# EAGLE library part TL2575HV-33QKTTRQ1 (library v-reg-custom)
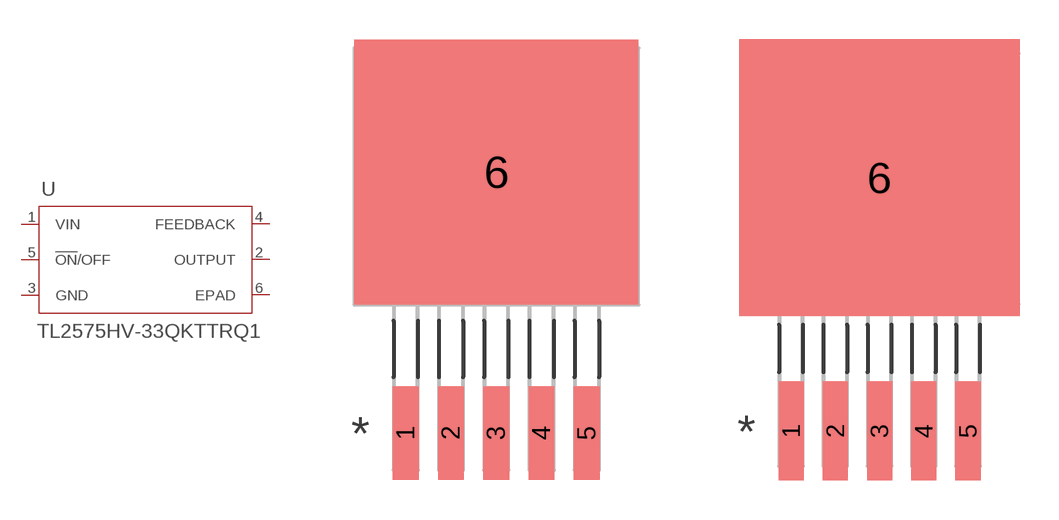
[diagram p0: symbol with the pads of KTT5; footprints KTT5, KTT5-M]

Designator prefix U

## TL2575HV-33QKTTRQ1 (MFG: Texas Instruments; MPN: TL2575HV-33QKTTRQ1; VALUE: TL2575HV-33QKTTRQ1)  [KTT5]
1  VIN  in
2  OUTPUT  out
3  GND  pwr
4  FEEDBACK  pas
5  !ON!/OFF  pas
6  EPAD  pas

## TL2575HV-33QKTTRQ1KTT5-M (COPYRIGHT: Copyright (C) 2022 Ultra Librarian. All rights reserved.; MFG: Texas Instruments; MPN: TL2575HV-33QKTTRQ1)  [KTT5-M]
Pads as for KTT5

## TL2575HV-33QKTTRQ1KTT5-L (COPYRIGHT: Copyright (C) 2022 Ultra Librarian. All rights reserved.; MFG: Texas Instruments; MPN: TL2575HV-33QKTTRQ1)  [KTT5-L]
Pads as for KTT5

## Footprint KTT5 (pad centres in mm)
smd 0.965 x 3.505: 1 -3.4,-9.652; 2 -1.7,-9.652; 3 0,-9.652; 4 1.7,-9.652; 5 3.4,-9.652
smd 10.668 x 9.957: 6 0,0.152

## Footprint KTT5-M (pad centres in mm)
smd 0.965 x 3.81: 1 -3.4,-9.703; 2 -1.7,-9.703; 3 0,-9.703; 4 1.7,-9.703; 5 3.4,-9.703
smd 10.77 x 10.668: 6 0,0.051

## Footprint KTT5-L (pad centres in mm)
smd 0.914 x 3.2: 1 -3.4,-9.601; 2 -1.7,-9.601; 3 0,-9.601; 4 1.7,-9.601; 5 3.4,-9.601
smd 10.668 x 10.058: 6 0,-0.051